# Altium footprint library OSHW_CAP_Altium_Vault_Generic_20201223.PcbLib: 129 footprints (part 1 of 9)
Each footprint in its own frame and in the unit in brackets; x right, y up, seen from the top. Pads: shape width x height; smd on the part's side, far side on the other; paste and mask are expansions set on the pad; w line width, h text height; cw(c..) or ccw(c..) is an arc to the next point about the centre after c.
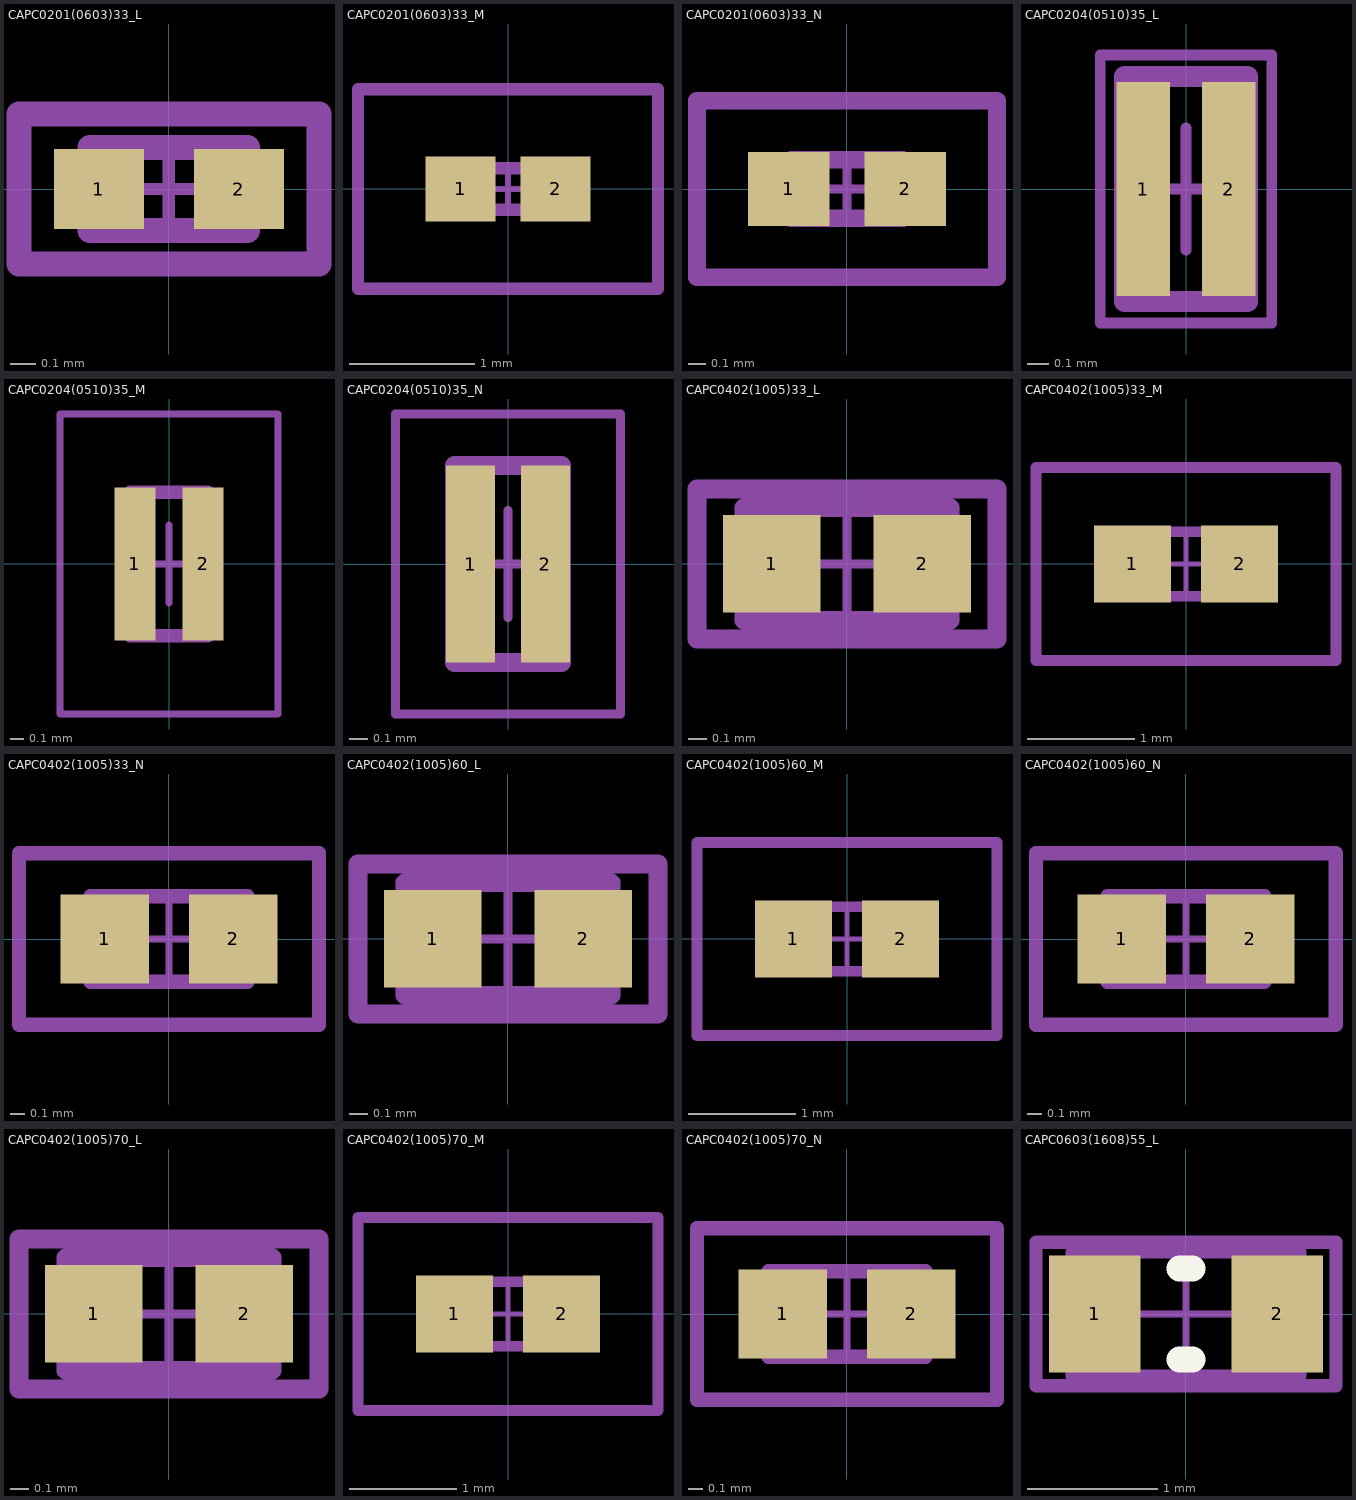
[diagram p0: the footprints below, top view; thin cyan lines are the x and y axes]

## CAPC0201(0603)33_L [mm] "Chip Capacitor, Body 0.6x0.3mm, Height 0.33mm, IPC High Density"
height 0.33
pads (2):
  rect 0.36x0.32 smd: 1(-0.28,0) 2(0.28,0)
Top Assembly:
  lines w0.1: -0.6,-0.3 0.6,-0.3 0.6,0.3 -0.6,0.3 -0.6,-0.3
  text "'.Designator'" at 0,0 h1
Top Courtyard:
  lines w0.05: -0.165,0 0.165,0 ; 0,-0.165 0,0.165 ; -0.6,-0.3 0.6,-0.3 0.6,0.3 -0.6,0.3 -0.6,-0.3
Top Component Outline:
  lines w0.1: -0.315,-0.165 -0.315,0.165 0.315,0.165 0.315,-0.165 -0.315,-0.165
3D body: height 0.33, standoff 0, extent -0.165,-0.165 0.165,0.165
3D body: height 0.33, standoff 0, extent -0.315,-0.165 -0.165,0.165
3D body: height 0.33, standoff 0, extent 0.165,-0.165 0.315,0.165

## CAPC0201(0603)33_M [mm] "Chip Capacitor, Body 0.6x0.3mm, Height 0.33mm, IPC Low Density"
height 0.33
pads (2):
  rect 0.56x0.52 smd: 1(-0.38,0) 2(0.38,0)
Top Assembly:
  lines w0.1: -1.2,-0.8 -1.2,0.8 1.2,0.8 1.2,-0.8 -1.2,-0.8
  text "'.Designator'" at 0,0 h1
Top Courtyard:
  lines w0.05: -0.165,0 0.165,0 ; 0,-0.165 0,0.165 ; -1.2,-0.8 1.2,-0.8 1.2,0.8 -1.2,0.8 -1.2,-0.8
Top Component Outline:
  lines w0.1: -0.315,-0.165 -0.315,0.165 0.315,0.165 0.315,-0.165 -0.315,-0.165
3D body: height 0.33, standoff 0, extent -0.165,-0.165 0.165,0.165
3D body: height 0.33, standoff 0, extent -0.315,-0.165 -0.165,0.165
3D body: height 0.33, standoff 0, extent 0.165,-0.165 0.315,0.165

## CAPC0201(0603)33_N [mm] "Chip Capacitor, Body 0.6x0.3mm, Height 0.33mm, IPC Medium Density"
height 0.33
pads (2):
  rect 0.46x0.42 smd: 1(-0.33,0) 2(0.33,0)
Top Assembly:
  lines w0.1: -0.85,-0.5 0.85,-0.5 0.85,0.5 -0.85,0.5 -0.85,-0.5
  text "'.Designator'" at 0,0 h1
Top Courtyard:
  lines w0.05: -0.165,0 0.165,0 ; 0,-0.165 0,0.165 ; -0.85,-0.5 -0.85,0.5 0.85,0.5 0.85,-0.5 -0.85,-0.5
Top Component Outline:
  lines w0.1: -0.315,-0.165 0.315,-0.165 0.315,0.165 -0.315,0.165 -0.315,-0.165
3D body: height 0.33, standoff 0, extent 0.165,-0.165 0.315,0.165
3D body: height 0.33, standoff 0, extent -0.315,-0.165 -0.165,0.165
3D body: height 0.33, standoff 0, extent -0.165,-0.165 0.165,0.165

## CAPC0204(0510)35_L [mm] "Chip Capacitor, 2-Leads, Body 0.52x1.00mm, IPC High Density"
height 0.35
pads (2):
  rect 0.25x1 smd mask+0.05: 1(-0.2,0) 2(0.2,0)
Top Assembly:
  lines w0.1: -0.285,-0.525 -0.285,0.525 0.285,0.525 0.285,-0.525 -0.285,-0.525
  text "'.Designator'" at 0,0 h1
Top Courtyard:
  lines w0.05: -0.285,0 0.285,0 ; 0,-0.285 0,0.285 ; -0.4,-0.625 -0.4,0.625 0.4,0.625 0.4,-0.625 -0.4,-0.625
Top Component Outline:
  lines w0.1: -0.285,-0.525 0.285,-0.525 0.285,0.525 -0.285,0.525 -0.285,-0.525
3D body: height 0.35, standoff 0, extent -0.085,-0.525 0.085,0.525
3D body: height 0.35, standoff 0, extent -0.285,-0.525 -0.085,0.525
3D body: height 0.35, standoff 0, extent 0.085,-0.525 0.285,0.525

## CAPC0204(0510)35_M [mm] "Chip Capacitor, 2-Leads, Body 0.52x1.00mm, IPC Low Density"
height 0.35
pads (2):
  rect 0.3x1.12 smd mask+0.05: 1(-0.25,0) 2(0.25,0)
Top Assembly:
  lines w0.1: -0.285,-0.525 0.285,-0.525 0.285,0.525 -0.285,0.525 -0.285,-0.525
  text "'.Designator'" at 0,0 h1
Top Courtyard:
  lines w0.05: -0.285,0 0.285,0 ; 0,-0.285 0,0.285 ; -0.8,-1.1 0.8,-1.1 0.8,1.1 -0.8,1.1 -0.8,-1.1
Top Component Outline:
  lines w0.1: -0.285,-0.525 0.285,-0.525 0.285,0.525 -0.285,0.525 -0.285,-0.525
3D body: height 0.35, standoff 0, extent 0.085,-0.525 0.285,0.525
3D body: height 0.35, standoff 0, extent -0.285,-0.525 -0.085,0.525
3D body: height 0.35, standoff 0, extent -0.085,-0.525 0.085,0.525

## CAPC0204(0510)35_N [mm] "Chip Capacitor, 2-Leads, Body 0.52x1.00mm, IPC Medium Density"
height 0.35
pads (2):
  rect 0.26x1.05 smd mask+0.05: 1(-0.2,0) 2(0.2,0)
Top Assembly:
  lines w0.1: -0.285,-0.525 -0.285,0.525 0.285,0.525 0.285,-0.525 -0.285,-0.525
  text "'.Designator'" at 0,0 h1
Top Courtyard:
  lines w0.05: -0.285,0 0.285,0 ; 0,-0.285 0,0.285 ; -0.6,-0.8 -0.6,0.8 0.6,0.8 0.6,-0.8 -0.6,-0.8
Top Component Outline:
  lines w0.1: -0.285,-0.525 0.285,-0.525 0.285,0.525 -0.285,0.525 -0.285,-0.525
3D body: height 0.35, standoff 0, extent -0.085,-0.525 0.085,0.525
3D body: height 0.35, standoff 0, extent -0.285,-0.525 -0.085,0.525
3D body: height 0.35, standoff 0, extent 0.085,-0.525 0.285,0.525

## CAPC0402(1005)33_L [mm] "Chip Capacitor, Body 1.0x0.5mm, Height 0.33mm, IPC High Density"
height 0.33
pads (2):
  rect 0.52x0.52 smd: 1(-0.4,0) 2(0.4,0)
Top Assembly:
  lines w0.1: -0.8,-0.4 0.8,-0.4 0.8,0.4 -0.8,0.4 -0.8,-0.4
  text "'.Designator'" at 0,0 h1
Top Courtyard:
  lines w0.05: -0.3,0 0.3,0 ; 0,-0.3 0,0.3 ; -0.8,-0.4 0.8,-0.4 0.8,0.4 -0.8,0.4 -0.8,-0.4
Top Component Outline:
  lines w0.1: -0.55,-0.3 -0.55,0.3 0.55,0.3 0.55,-0.3 -0.55,-0.3
3D body: height 0.33, standoff 0, extent -0.3,-0.3 0.3,0.3
3D body: height 0.33, standoff 0, extent -0.55,-0.3 -0.3,0.3
3D body: height 0.33, standoff 0, extent 0.3,-0.3 0.55,0.3

## CAPC0402(1005)33_M [mm] "Chip Capacitor, Body 1.0x0.5mm, Height 0.33mm, IPC Low Density"
height 0.33
pads (2):
  rect 0.72x0.72 smd: 1(-0.5,0) 2(0.5,0)
Top Assembly:
  lines w0.1: -1.4,-0.9 -1.4,0.9 1.4,0.9 1.4,-0.9 -1.4,-0.9
  text "'.Designator'" at 0,0 h1
Top Courtyard:
  lines w0.05: -0.3,0 0.3,0 ; 0,-0.3 0,0.3 ; -1.4,-0.9 -1.4,0.9 1.4,0.9 1.4,-0.9 -1.4,-0.9
Top Component Outline:
  lines w0.1: -0.55,-0.3 0.55,-0.3 0.55,0.3 -0.55,0.3 -0.55,-0.3
3D body: height 0.33, standoff 0, extent 0.3,-0.3 0.55,0.3
3D body: height 0.33, standoff 0, extent -0.55,-0.3 -0.3,0.3
3D body: height 0.33, standoff 0, extent -0.3,-0.3 0.3,0.3

## CAPC0402(1005)33_N [mm] "Chip Capacitor, Body 1.0x0.5mm, Height 0.33mm, IPC Medium Density"
height 0.33
pads (2):
  rect 0.62x0.62 smd: 1(-0.45,0) 2(0.45,0)
Top Assembly:
  lines w0.1: -1.05,-0.6 1.05,-0.6 1.05,0.6 -1.05,0.6 -1.05,-0.6
  text "'.Designator'" at 0,0 h1
Top Courtyard:
  lines w0.05: -0.3,0 0.3,0 ; 0,-0.3 0,0.3 ; -1.05,-0.6 1.05,-0.6 1.05,0.6 -1.05,0.6 -1.05,-0.6
Top Component Outline:
  lines w0.1: -0.55,-0.3 -0.55,0.3 0.55,0.3 0.55,-0.3 -0.55,-0.3
3D body: height 0.33, standoff 0, extent -0.3,-0.3 0.3,0.3
3D body: height 0.33, standoff 0, extent -0.55,-0.3 -0.3,0.3
3D body: height 0.33, standoff 0, extent 0.3,-0.3 0.55,0.3

## CAPC0402(1005)60_L [mm] "Chip Capacitor, Body 1.0x0.5mm, Height 0.6mm, IPC High Density"
height 0.6
pads (2):
  rect 0.52x0.52 smd: 1(-0.4,0) 2(0.4,0)
Top Assembly:
  lines w0.1: -0.8,-0.4 0.8,-0.4 0.8,0.4 -0.8,0.4 -0.8,-0.4
  text "'.Designator'" at 0,0 h1
Top Courtyard:
  lines w0.05: -0.3,0 0.3,0 ; 0,-0.3 0,0.3 ; -0.8,-0.4 0.8,-0.4 0.8,0.4 -0.8,0.4 -0.8,-0.4
Top Component Outline:
  lines w0.1: -0.55,-0.3 -0.55,0.3 0.55,0.3 0.55,-0.3 -0.55,-0.3
3D body: height 0.6, standoff 0, extent -0.3,-0.3 0.3,0.3
3D body: height 0.6, standoff 0, extent -0.55,-0.3 -0.3,0.3
3D body: height 0.6, standoff 0, extent 0.3,-0.3 0.55,0.3

## CAPC0402(1005)60_M [mm] "Chip Capacitor, Body 1.0x0.5mm, Height 0.6mm, IPC Low Density"
height 0.6
pads (2):
  rect 0.72x0.72 smd: 1(-0.5,0) 2(0.5,0)
Top Assembly:
  lines w0.1: -1.4,-0.9 -1.4,0.9 1.4,0.9 1.4,-0.9 -1.4,-0.9
  text "'.Designator'" at 0,0 h1
Top Courtyard:
  lines w0.05: -0.3,0 0.3,0 ; 0,-0.3 0,0.3 ; -1.4,-0.9 1.4,-0.9 1.4,0.9 -1.4,0.9 -1.4,-0.9
Top Component Outline:
  lines w0.1: -0.55,-0.3 0.55,-0.3 0.55,0.3 -0.55,0.3 -0.55,-0.3
3D body: height 0.6, standoff 0, extent -0.3,-0.3 0.3,0.3
3D body: height 0.6, standoff 0, extent -0.55,-0.3 -0.3,0.3
3D body: height 0.6, standoff 0, extent 0.3,-0.3 0.55,0.3

## CAPC0402(1005)60_N [mm] "Chip Capacitor, Body 1.0x0.5mm, Height 0.6mm, IPC Medium Density"
height 0.6
pads (2):
  rect 0.62x0.62 smd: 1(-0.45,0) 2(0.45,0)
Top Assembly:
  lines w0.1: -1.05,-0.6 -1.05,0.6 1.05,0.6 1.05,-0.6 -1.05,-0.6
  text "'.Designator'" at 0,0 h1
Top Courtyard:
  lines w0.05: -0.3,0 0.3,0 ; 0,-0.3 0,0.3 ; -1.049,-0.6 1.051,-0.6 1.051,0.6 -1.049,0.6 -1.049,-0.6
Top Component Outline:
  lines w0.1: -0.55,-0.3 0.55,-0.3 0.55,0.3 -0.55,0.3 -0.55,-0.3
3D body: height 0.6, standoff 0, extent -0.3,-0.3 0.3,0.3
3D body: height 0.6, standoff 0, extent -0.55,-0.3 -0.3,0.3
3D body: height 0.6, standoff 0, extent 0.3,-0.3 0.55,0.3

## CAPC0402(1005)70_L [mm] "Chip Capacitor, Body 1.0x0.5mm, Height 0.7mm, IPC High Density"
height 0.7
pads (2):
  rect 0.52x0.52 smd: 1(-0.4,0) 2(0.4,0)
Top Assembly:
  lines w0.1: -0.8,-0.4 -0.8,0.4 0.8,0.4 0.8,-0.4 -0.8,-0.4
  text "'.Designator'" at 0,0 h1
Top Courtyard:
  lines w0.05: -0.3,0 0.3,0 ; 0,-0.3 0,0.3 ; -0.8,-0.4 -0.8,0.4 0.8,0.4 0.8,-0.4 -0.8,-0.4
Top Component Outline:
  lines w0.1: -0.55,-0.3 -0.55,0.3 0.55,0.3 0.55,-0.3 -0.55,-0.3
3D body: height 0.7, standoff 0, extent 0.3,-0.3 0.55,0.3
3D body: height 0.7, standoff 0, extent -0.55,-0.3 -0.3,0.3
3D body: height 0.7, standoff 0, extent -0.3,-0.3 0.3,0.3

## CAPC0402(1005)70_M [mm] "Chip Capacitor, Body 1.0x0.5mm, Height 0.7mm, IPC Low Density"
height 0.7
pads (2):
  rect 0.72x0.72 smd: 1(-0.5,0) 2(0.5,0)
Top Assembly:
  lines w0.1: -1.4,-0.9 1.4,-0.9 1.4,0.9 -1.4,0.9 -1.4,-0.9
  text "'.Designator'" at 0,0 h1
Top Courtyard:
  lines w0.05: -0.3,0 0.3,0 ; 0,-0.3 0,0.3 ; -1.4,-0.9 -1.4,0.9 1.4,0.9 1.4,-0.9 -1.4,-0.9
Top Component Outline:
  lines w0.1: -0.55,-0.3 0.55,-0.3 0.55,0.3 -0.55,0.3 -0.55,-0.3
3D body: height 0.7, standoff 0, extent 0.3,-0.3 0.55,0.3
3D body: height 0.7, standoff 0, extent -0.55,-0.3 -0.3,0.3
3D body: height 0.7, standoff 0, extent -0.3,-0.3 0.3,0.3

## CAPC0402(1005)70_N [mm] "Chip Capacitor, Body 1.0x0.5mm, Height 0.7mm, IPC Medium Density"
height 0.7
pads (2):
  rect 0.62x0.62 smd: 1(-0.45,0) 2(0.45,0)
Top Assembly:
  lines w0.1: -1.05,-0.6 1.05,-0.6 1.05,0.6 -1.05,0.6 -1.05,-0.6
  text "'.Designator'" at 0,0 h1
Top Courtyard:
  lines w0.05: -0.3,0 0.3,0 ; 0,-0.3 0,0.3 ; -1.05,-0.6 -1.05,0.6 1.05,0.6 1.05,-0.6 -1.05,-0.6
Top Component Outline:
  lines w0.1: -0.55,-0.3 0.55,-0.3 0.55,0.3 -0.55,0.3 -0.55,-0.3
3D body: height 0.7, standoff 0, extent 0.3,-0.3 0.55,0.3
3D body: height 0.7, standoff 0, extent -0.55,-0.3 -0.3,0.3
3D body: height 0.7, standoff 0, extent -0.3,-0.3 0.3,0.3

## CAPC0603(1608)55_L [mm] "Chip Capacitor, Body 1.6x0.8mm, Height 0.55mm, IPC High Density"
height 0.55
pads (2):
  rect 0.7x0.9 smd: 1(-0.7,0) 2(0.7,0)
Top Overlay:
  lines w0.2: -0.05,-0.35 0.05,-0.35 ; -0.05,0.35 0.05,0.35
Top Assembly:
  lines w0.1: -1.15,-0.55 -1.15,0.55 1.15,0.55 1.15,-0.55 -1.15,-0.55
  text "'.Designator'" at 0,0 h1
Top Courtyard:
  lines w0.05: -0.475,0 0.475,0 ; 0,-0.475 0,0.475 ; -1.15,-0.55 -1.15,0.55 1.15,0.55 1.15,-0.55 -1.15,-0.55
Top Component Outline:
  lines w0.1: -0.875,-0.475 0.875,-0.475 0.875,0.475 -0.875,0.475 -0.875,-0.475
3D body: height 0.55, standoff 0, extent 0.525,-0.475 0.875,0.475
3D body: height 0.55, standoff 0, extent -0.875,-0.475 -0.525,0.475
3D body: height 0.55, standoff 0, extent -0.525,-0.475 0.525,0.475